# Altium footprint library SparkFun-Aesthetics.PCBLIB: 74 footprints (part 2 of 5)
Each footprint in its own frame and in the unit in brackets; x right, y up, seen from the top. Pads: shape width x height; smd on the part's side, far side on the other; paste and mask are expansions set on the pad; w line width, h text height; cw(c..) or ccw(c..) is an arc to the next point about the centre after c.
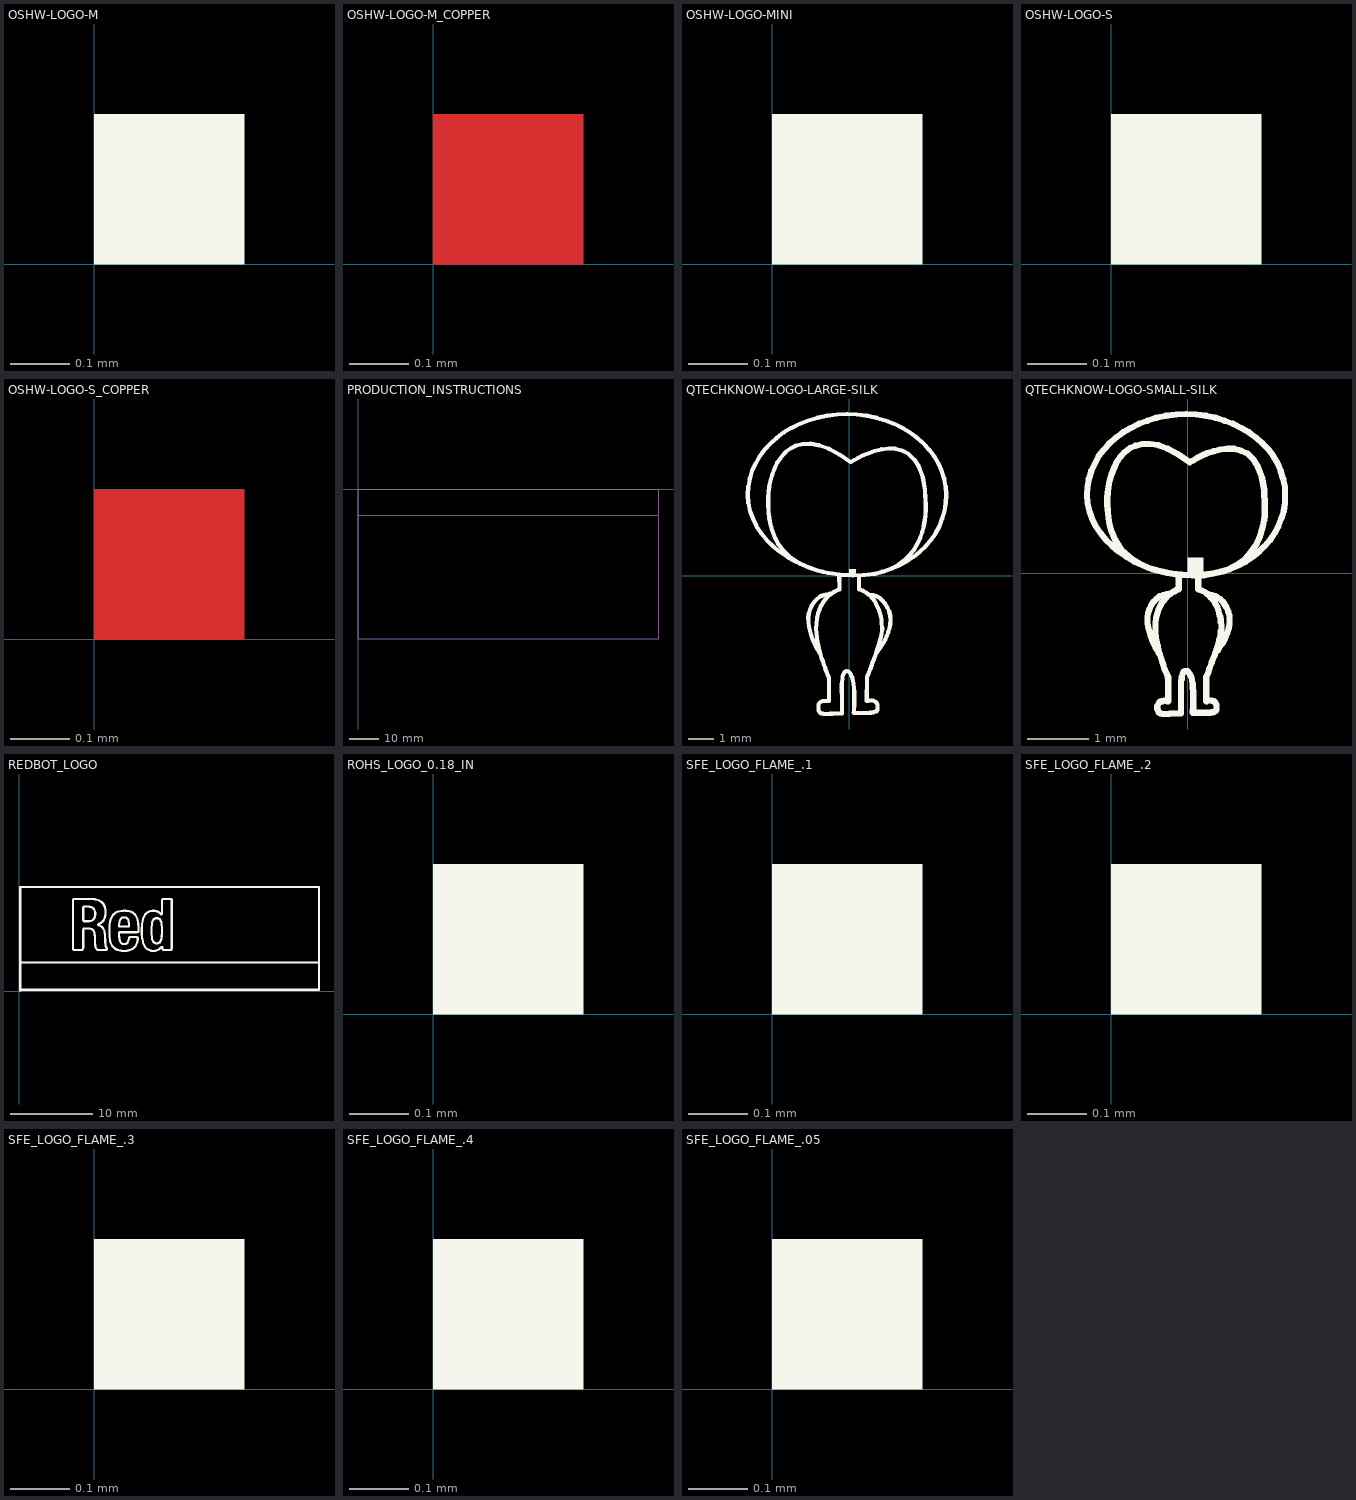
[diagram p1: the footprints below, top view; thin cyan lines are the x and y axes]

## OSHW-LOGO-M [mm]
Top Overlay:
  region: 0,0 0.254,0 0.254,0.254 0,0.254

## OSHW-LOGO-M_COPPER [mm]
Top Layer:
  region: 0,0 0.254,0 0.254,0.254 0,0.254

## OSHW-LOGO-MINI [mm]
Top Overlay:
  region: 0,0 0.254,0 0.254,0.254 0,0.254

## OSHW-LOGO-S [mm]
Top Overlay:
  region: 0,0 0.254,0 0.254,0.254 0,0.254

## OSHW-LOGO-S_COPPER [mm]
Top Layer:
  region: 0,0 0.254,0 0.254,0.254 0,0.254

## PRODUCTION_INSTRUCTIONS [mm]
Mechanical 16:
  lines w0.203: 0,-8.89 0,-50.8 101.6,-50.8 101.6,-8.89 ; 0,-8.89 0,0 101.6,0 101.6,-8.89 ; 0,-8.89 101.6,-8.89
  text "Production Instructions:" at 1.27,-1.27 h2.59
  text "(Add these comments when uploading gerbers.)" at 1.27,-6.35 h1.51

## QTECHKNOW-LOGO-LARGE-SILK [mm]
Top Overlay:
  drawing of 317 lines, arcs and shapes, not listed

## QTECHKNOW-LOGO-SMALL-SILK [mm]
Top Overlay:
  drawing of 280 lines, arcs and shapes, not listed

## REDBOT_LOGO [mm]
Top Overlay:
  drawing of 405 lines, arcs and shapes, not listed

## REVISION [mm]
Mechanical 16:
  text "Revision By:" at 0,0 h1.51

## ROHS_LOGO_0.18_IN [mm]
Top Overlay:
  region: 0,0 0.254,0 0.254,0.254 0,0.254
  region: 0,0 0.254,0 0.254,0.254 0,0.254
  region: 0,0 0.254,0 0.254,0.254 0,0.254
  region: 0,0 0.254,0 0.254,0.254 0,0.254
  region: 0,0 0.254,0 0.254,0.254 0,0.254
  region: 0,0 0.254,0 0.254,0.254 0,0.254
  region: 0,0 0.254,0 0.254,0.254 0,0.254

## SFE_LOGO_FLAME_.1 [mm]
Top Overlay:
  region: 0,0 0.254,0 0.254,0.254 0,0.254

## SFE_LOGO_FLAME_.2 [mm]
Top Overlay:
  region: 0,0 0.254,0 0.254,0.254 0,0.254

## SFE_LOGO_FLAME_.3 [mm]
Top Overlay:
  region: 0,0 0.254,0 0.254,0.254 0,0.254

## SFE_LOGO_FLAME_.4 [mm]
Top Overlay:
  region: 0,0 0.254,0 0.254,0.254 0,0.254

## SFE_LOGO_FLAME_.05 [mm]
Top Overlay:
  region: 0,0 0.254,0 0.254,0.254 0,0.254